# Altium schematic symbol library THS7002_New_Schematic.SchLib: 1 symbol
Pins are listed as number, name and electrical type; pins without a type are passive.

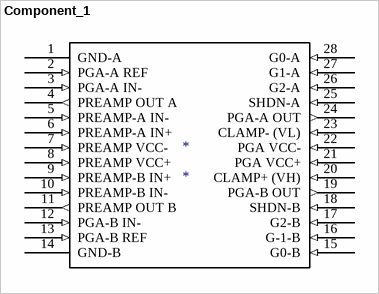
[diagram p0: symbol Component_1]

## Component_1
designator *
footprint PWP0028E_N (SOP, 28-leads, Body 4.5x9.8mm, Pitch 0.65mm, Thermal Pad 2.4x6.17mm, IPC Medium Density)
pins: 1 GND-A, 2 PGA-A REF (in), 3 PGA-A IN- (in), 4 PREAMP OUT A (out), 5 PREAMP-A IN- (in), 6 PREAMP-A IN+ (in), 7 PREAMP VCC- (in), 8 PREAMP VCC+ (in), 9 PREAMP-B IN+ (in), 10 PREAMP-B IN- (in), 11 PREAMP OUT B (out), 12 PGA-B IN- (in), 13 PGA-B REF (in), 14 GND-B, 15 G0-B (in), 16 G-1-B (in), 17 G2-B (in), 18 SHDN-B (in), 19 PGA-B OUT (out), 20 CLAMP+ (VH) (in), 21 PGA VCC+ (in), 22 PGA VCC- (in), 23 CLAMP- (VL) (in), 24 PGA-A OUT (out), 25 SHDN-A (in), 26 G2-A (in), 27 G1-A (in), 28 G0-A (in)